# Altium schematic symbol library Crystal.SchLib: 9 symbols
Pins are listed as number, name and electrical type; pins without a type are passive.

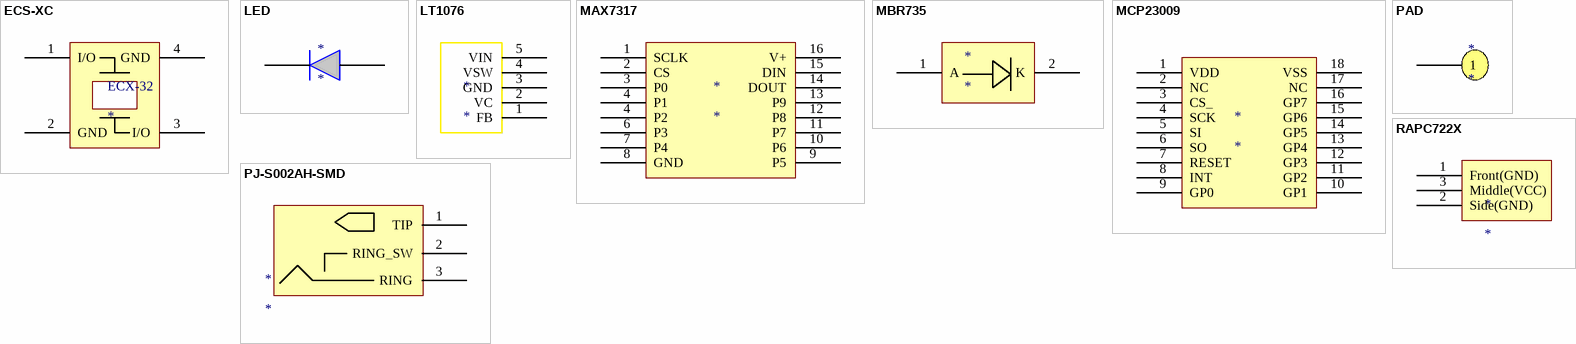
[diagram p0: symbols ECS-XC to RAPC722X]

## ECS-XC
designator ECX-32
DATASHEET: http://www.ecsxtal.com/store/pdf/ecx-32.pdf; url: http://www.digikey.ca/product-detail/en/ECS-160-20-33-TR/XC1137CT-ND/813375
footprint ECX-32
pins: 1 I/O, 2 GND, 3 I/O, 4 GND

## LED
designator *
footprint LED
pins: 1, 2

## LT1076
designator *
footprint LT1076
pins: 1 FB, 2 VC, 3 GND, 4 VSW, 5 VIN

## MAX7317
designator *
footprint MAX7317
pins: 1 SCLK, 2 CS, 3 P0, 4 P1, 4 P2, 6 P3, 7 P4, 8 GND, 9 P5, 10 P6, 11 P7, 12 P8, 13 P9, 14 DOUT, 15 DIN, 16 V+

## MBR735
designator *
footprint MBR735
pins: 1 A, 2 K

## MCP23009
designator *
footprint MCP23009
pins: 1 VDD, 2 NC, 3 CS_, 4 SCK, 5 SI, 6 SO, 7 RESET, 8 INT, 9 GP0, 10 GP1, 11 GP2, 12 GP3, 13 GP4, 14 GP5, 15 GP6, 16 GP7, 17 NC, 18 VSS

## PAD
designator *
footprint PADA
pins: 1

## PJ-S002AH-SMD
designator *
footprint PJ-002AH-SMD
pins: 1 TIP, 2 RING_SW, 3 RING

## RAPC722X
designator *
footprint BGA56x10
pins: 1 Front(GND), 2 Side(GND), 3 Middle(VCC)